# Altium schematic symbol library TEST_POINT_PAD2MM.SchLib: 1 symbol
Pins are listed as number, name and electrical type; pins without a type are passive.

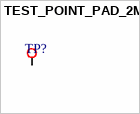
[diagram p0: symbol TEST_POINT_PAD_2MM]

## TEST_POINT_PAD_2MM
designator TP?  (no BOM)
footprint ROUND_2MM
footprint RECTANGULAR_2MM
pins: 1